# EAGLE library part MICRO:BIT (library Micro_Bit_Parts)
BBC MICRO_BIT with 5x5 LED array facing the direction noted in the variant. "UP" means away from the host board, "Down" means facing towards the host board.
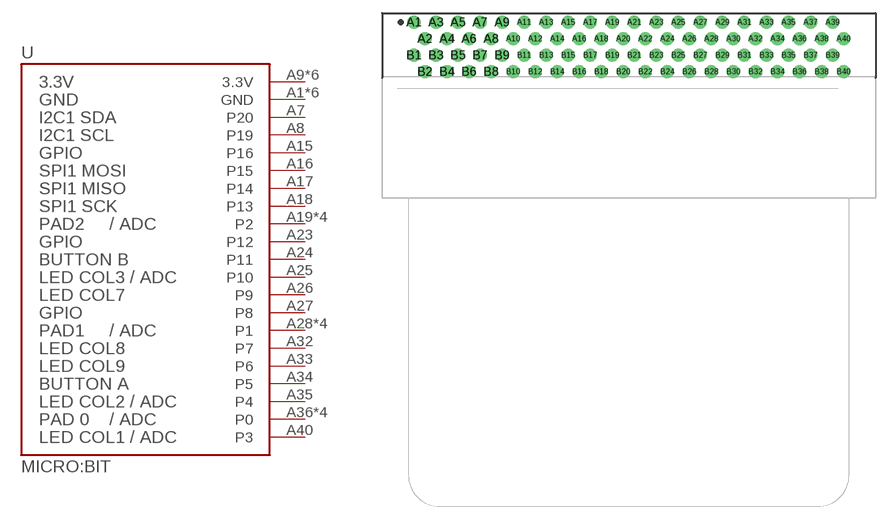
[diagram p1: symbol with the pads of MICRO:BIT_RA_PTH; footprint MICRO:BIT_RA_PTH]

Designator prefix U

## MICRO:BITLEDS_UP (PROD_ID: CONN-13452; VALUE: micro:bit)  [MICRO:BIT_RA_PTH]
A1  GND
A2  GND
A3  GND
A4  GND
A5  GND
A6  GND
A7  P20
A8  P19
A9  3.3V
A10  3.3V
A11  3.3V
A12  3.3V
A13  3.3V
A14  3.3V
A15  P16
A16  P15
A17  P14
A18  P13
A19  P2
A20  P2
A21  P2
A22  P2
A23  P12
A24  P11
A25  P10
A26  P9
A27  P8
A28  P1
A29  P1
A30  P1
A31  P1
A32  P7
A33  P6
A34  P5
A35  P4
A36  P0
A37  P0
A38  P0
A39  P0
A40  P3

## MICRO:BITLEDS_DOWN (PROD_ID: CONN-13452)  [MICRO:BIT_RA_PTH]
B1  P3
B2  P0
B3  P0
B4  P0
B5  P0
B6  P4
B7  P5
B8  P6
B9  P7
B10  P1
B11  P1
B12  P1
B13  P1
B14  P8
B15  P9
B16  P10
B17  P11
B18  P12
B19  P2
B20  P2
B21  P2
B22  P2
B23  P13
B24  P14
B25  P15
B26  P16
B27  3.3V
B28  3.3V
B29  3.3V
B30  3.3V
B31  3.3V
B32  3.3V
B33  P19
B34  P20
B35  GND
B36  GND
B37  GND
B38  GND
B39  GND
B40  GND

## Footprint MICRO:BIT_RA_PTH (pad centres in mm)
drill 1: A1 -24.765,7.62; A2 -23.495,5.72; A3 -22.225,7.62; A4 -20.955,5.72; A5 -19.685,7.62; A6 -18.415,5.72; A7 -17.145,7.62; A8 -15.875,5.72; A9 -14.605,7.62; A10 -13.335,5.72; A11 -12.065,7.62; A12 -10.795,5.72; A13 -9.525,7.62; A14 -8.255,5.72; A15 -6.985,7.62; A16 -5.715,5.72; A17 -4.445,7.62; A18 -3.175,5.72; A19 -1.905,7.62; A20 -0.635,5.72; A21 0.635,7.62; A22 1.905,5.72; A23 3.175,7.62; A24 4.445,5.72; A25 5.715,7.62; A26 6.985,5.72; A27 8.255,7.62; A28 9.525,5.72; A29 10.795,7.62; A30 12.065,5.72; A31 13.335,7.62; A32 14.605,5.72; A33 15.875,7.62; A34 17.145,5.72; A35 18.415,7.62; A36 19.685,5.72; A37 20.955,7.62; A38 22.225,5.72; A39 23.495,7.62; A40 24.765,5.72; B1 -24.765,3.82; B2 -23.495,1.92; B3 -22.225,3.82; B4 -20.955,1.92; B5 -19.685,3.82; B6 -18.415,1.92; B7 -17.145,3.82; B8 -15.875,1.92; B9 -14.605,3.82; B10 -13.335,1.92; B11 -12.065,3.82; B12 -10.795,1.92; B13 -9.525,3.82; B14 -8.255,1.92; B15 -6.985,3.82; B16 -5.715,1.92; B17 -4.445,3.82; B18 -3.175,1.92; B19 -1.905,3.82; B20 -0.635,1.92; B21 0.635,3.82; B22 1.905,1.92; B23 3.175,3.82; B24 4.445,1.92; B25 5.715,3.82; B26 6.985,1.92; B27 8.255,3.82; B28 9.525,1.92; B29 10.795,3.82; B30 12.065,1.92; B31 13.335,3.82; B32 14.605,1.92; B33 15.875,3.82; B34 17.145,1.92; B35 18.415,3.82; B36 19.685,1.92; B37 20.955,3.82; B38 22.225,1.92; B39 23.495,3.82; B40 24.765,1.92